# Altium footprint library PcbLib.PcbLib: 1 footprints
Each footprint in its own frame and in the unit in brackets; x right, y up, seen from the top. Pads: shape width x height; smd on the part's side, far side on the other; paste and mask are expansions set on the pad; w line width, h text height; cw(c..) or ccw(c..) is an arc to the next point about the centre after c.
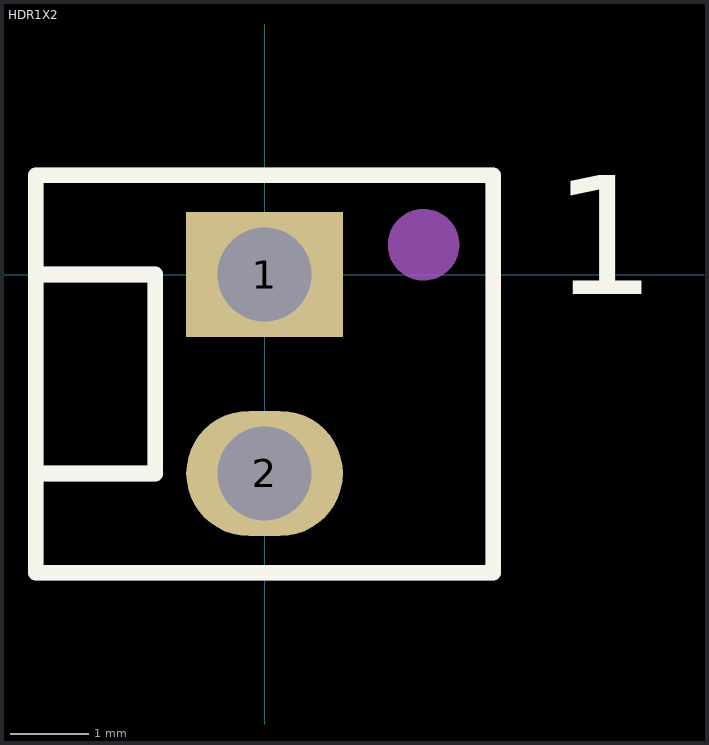
[diagram p0: the footprint, top view; thin cyan lines are the x and y axes]

## HDR1X2 [mm]
pads (2):
  rect 2x1.6 hole 1.2: 1(0,0)
  oval 2x1.6 hole 1.2: 2(0,-2.54)
Top Overlay:
  lines w0.2: -2.921,-2.54 -1.397,-2.54 -1.397,0 -2.921,0 ; -2.921,-3.81 -2.921,1.27 2.921,1.27 2.921,-3.81 -2.921,-3.81
  text "1" at 3.683,-0.254 h1.52
Mechanical 29:
  circle w0.508: c2.032,0.381 r0.203
  lines w0.2: -2.921,-2.54 -1.397,-2.54 -1.397,0 -2.921,0 ; -2.921,-3.81 2.921,-3.81 2.921,1.27 -2.921,1.27 -2.921,-3.81
  text "'.Designator'" at -0.889,-1.905 h1.2
3D body "022292021.stp": height 11.71, standoff -3.55, extent -2.9,-3.81 2.9,1.27